# EAGLE library part AT42QT1110 (library Bulkhead Flight Computer)
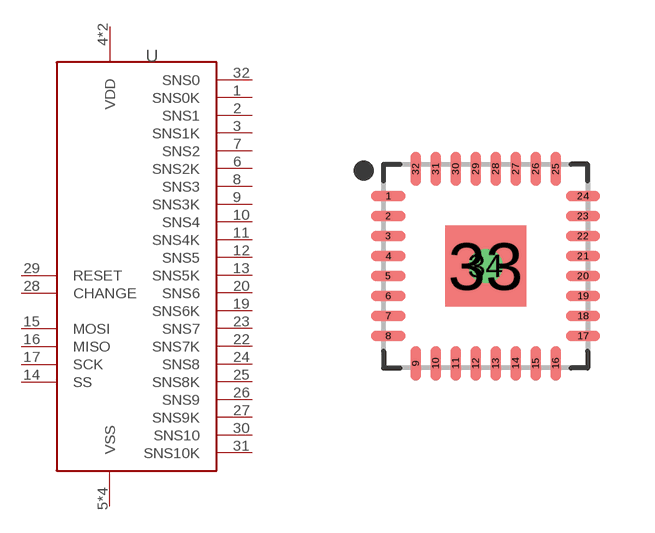
[diagram p9: symbol with the pads of QFN50P500X500X100-33T310; footprint QFN50P500X500X100-33T310]

Designator prefix U

## AT42QT1110  [QFN50P500X500X100-33T310]
1  SNS0K
2  SNS1
3  SNS1K
4  VDD  pwr
5  VSS  pas
6  SNS2K
7  SNS2
8  SNS3
9  SNS3K
10  SNS4
11  SNS4K
12  SNS5
13  SNS5K
14  SS  in
15  MOSI  in
16  MISO  out
17  SCK  in
18  VDD  pwr
19  SNS6K
20  SNS6
21  VSS  pas
22  SNS7K
23  SNS7
24  SNS8
25  SNS8K
26  SNS9
27  SNS9K
28  CHANGE  out
29  RESET  in
30  SNS10
31  SNS10K
32  SNS0
33  VSS  pas
34  VSS  pas

## Footprint QFN50P500X500X100-33T310 (pad centres in mm)
32-QFN, 0.50 mm pitch, 5.00 X 5.00 X 1.00 mm body, 3.10 X 3.10 mm thermal pad 32-pin QFN package with 0.50 mm pitch with body size 5.00 X 5.00 X 1.00 mm and thermal pad size 3.10 X 3.10 mm
smd 0.86 x 0.264: 1 -2.435,1.75; 2 -2.435,1.25; 3 -2.435,0.75; 4 -2.435,0.25; 5 -2.435,-0.25; 6 -2.435,-0.75; 7 -2.435,-1.25; 8 -2.435,-1.75; 17 2.435,-1.75; 18 2.435,-1.25; 19 2.435,-0.75; 20 2.435,-0.25; 21 2.435,0.25; 22 2.435,0.75; 23 2.435,1.25; 24 2.435,1.75
smd 0.264 x 0.86: 9 -1.75,-2.435; 10 -1.25,-2.435; 11 -0.75,-2.435; 12 -0.25,-2.435; 13 0.25,-2.435; 14 0.75,-2.435; 15 1.25,-2.435; 16 1.75,-2.435; 25 1.75,2.435; 26 1.25,2.435; 27 0.75,2.435; 28 0.25,2.435; 29 -0.25,2.435; 30 -0.75,2.435; 31 -1.25,2.435; 32 -1.75,2.435
smd 2.032 x 2.032: 33 0,0
drill 0.35: 34 0,0